# Altium footprint library CONN-SPE_AMP_3-1827253-6.PcbLib: 1 footprints
Each footprint in its own frame and in the unit in brackets; x right, y up, seen from the top. Pads: shape width x height; smd on the part's side, far side on the other; paste and mask are expansions set on the pad; w line width, h text height; cw(c..) or ccw(c..) is an arc to the next point about the centre after c.
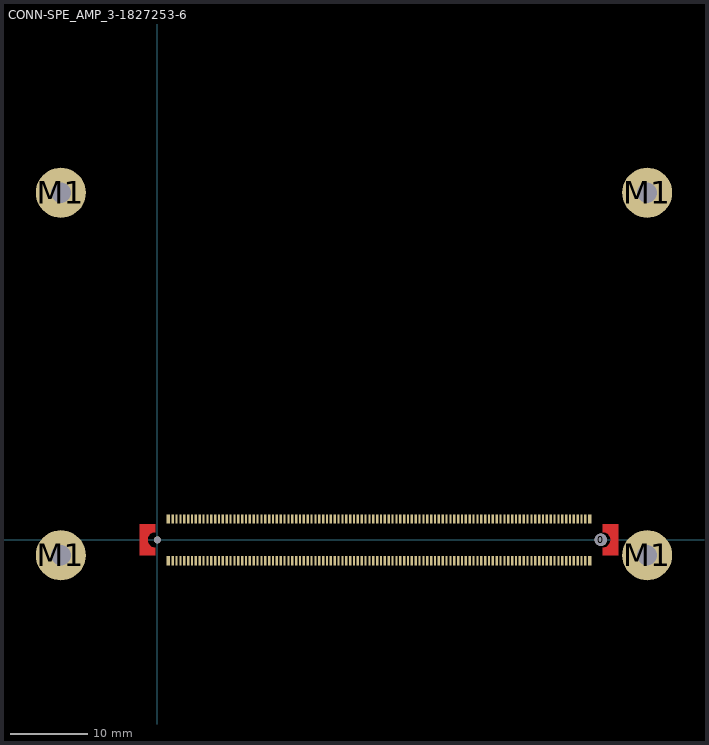
[diagram p0: the footprint, top view; thin cyan lines are the x and y axes]

## CONN-SPE_AMP_3-1827253-6 [mm]
pads (226):
  round 0.9 hole 0.9: 0(0,0)
  round 1.6 hole 1.6: 0(57.5,0)
  rect 0.45x1.2 smd: A1(1.425,-2.7) A110(56.075,-2.7) B1(1.425,2.7) B110(56.075,2.7)
  rect 0.3x1.2 smd: A2(2,-2.7) A3(2.5,-2.7) A4(3,-2.7) A5(3.5,-2.7) A6(4,-2.7) A7(4.5,-2.7) A8(5,-2.7) A9(5.5,-2.7) A10(6,-2.7) A11(6.5,-2.7) A12(7,-2.7) A13(7.5,-2.7) A14(8,-2.7) A15(8.5,-2.7) A16(9,-2.7) A17(9.5,-2.7) A18(10,-2.7) A19(10.5,-2.7) A20(11,-2.7) A21(11.5,-2.7) A22(12,-2.7) A23(12.5,-2.7) A24(13,-2.7) A25(13.5,-2.7) A26(14,-2.7) A27(14.5,-2.7) A28(15,-2.7) A29(15.5,-2.7) A30(16,-2.7) A31(16.5,-2.7) A32(17,-2.7) A33(17.5,-2.7) A34(18,-2.7) A35(18.5,-2.7) A36(19,-2.7) A37(19.5,-2.7) A38(20,-2.7) A39(20.5,-2.7) A40(21,-2.7) A41(21.5,-2.7) A42(22,-2.7) A43(22.5,-2.7) A44(23,-2.7) A45(23.5,-2.7) A46(24,-2.7) A47(24.5,-2.7) A48(25,-2.7) A49(25.5,-2.7) A50(26,-2.7) A51(26.5,-2.7) A52(27,-2.7) A53(27.5,-2.7) A54(28,-2.7) A55(28.5,-2.7) A56(29,-2.7) A57(29.5,-2.7) A58(30,-2.7) A59(30.5,-2.7) A60(31,-2.7) A61(31.5,-2.7) A62(32,-2.7) A63(32.5,-2.7) A64(33,-2.7) A65(33.5,-2.7) A66(34,-2.7) A67(34.5,-2.7) A68(35,-2.7) A69(35.5,-2.7) A70(36,-2.7) A71(36.5,-2.7) A72(37,-2.7) A73(37.5,-2.7) A74(38,-2.7) A75(38.5,-2.7) A76(39,-2.7) A77(39.5,-2.7) A78(40,-2.7) A79(40.5,-2.7) A80(41,-2.7) A81(41.5,-2.7) A82(42,-2.7) A83(42.5,-2.7) A84(43,-2.7) A85(43.5,-2.7) A86(44,-2.7) A87(44.5,-2.7) A88(45,-2.7) A89(45.5,-2.7) A90(46,-2.7) A91(46.5,-2.7) A92(47,-2.7) A93(47.5,-2.7) A94(48,-2.7) A95(48.5,-2.7) A96(49,-2.7) A97(49.5,-2.7) A98(50,-2.7) A99(50.5,-2.7) A100(51,-2.7) A101(51.5,-2.7) A102(52,-2.7) A103(52.5,-2.7) A104(53,-2.7) A105(53.5,-2.7) A106(54,-2.7) A107(54.5,-2.7) A108(55,-2.7) A109(55.5,-2.7) B2(2,2.7) B3(2.5,2.7) B4(3,2.7) B5(3.5,2.7) B6(4,2.7) B7(4.5,2.7) B8(5,2.7) B9(5.5,2.7) B10(6,2.7) B11(6.5,2.7) B12(7,2.7) B13(7.5,2.7) B14(8,2.7) B15(8.5,2.7) B16(9,2.7) B17(9.5,2.7) B18(10,2.7) B19(10.5,2.7) B20(11,2.7) B21(11.5,2.7) B22(12,2.7) B23(12.5,2.7) B24(13,2.7) B25(13.5,2.7) B26(14,2.7) B27(14.5,2.7) B28(15,2.7) B29(15.5,2.7) B30(16,2.7) B31(16.5,2.7) B32(17,2.7) B33(17.5,2.7) B34(18,2.7) B35(18.5,2.7) B36(19,2.7) B37(19.5,2.7) B38(20,2.7) B39(20.5,2.7) B40(21,2.7) B41(21.5,2.7) B42(22,2.7) B43(22.5,2.7) B44(23,2.7) B45(23.5,2.7) B46(24,2.7) B47(24.5,2.7) B48(25,2.7) B49(25.5,2.7) B50(26,2.7) B51(26.5,2.7) B52(27,2.7) B53(27.5,2.7) B54(28,2.7) B55(28.5,2.7) B56(29,2.7) B57(29.5,2.7) B58(30,2.7) B59(30.5,2.7) B60(31,2.7) B61(31.5,2.7) B62(32,2.7) B63(32.5,2.7) B64(33,2.7) B65(33.5,2.7) B66(34,2.7) B67(34.5,2.7) B68(35,2.7) B69(35.5,2.7) B70(36,2.7) B71(36.5,2.7) B72(37,2.7) B73(37.5,2.7) B74(38,2.7) B75(38.5,2.7) B76(39,2.7) B77(39.5,2.7) B78(40,2.7) B79(40.5,2.7) B80(41,2.7) B81(41.5,2.7) B82(42,2.7) B83(42.5,2.7) B84(43,2.7) B85(43.5,2.7) B86(44,2.7) B87(44.5,2.7) B88(45,2.7) B89(45.5,2.7) B90(46,2.7) B91(46.5,2.7) B92(47,2.7) B93(47.5,2.7) B94(48,2.7) B95(48.5,2.7) B96(49,2.7) B97(49.5,2.7) B98(50,2.7) B99(50.5,2.7) B100(51,2.7) B101(51.5,2.7) B102(52,2.7) B103(52.5,2.7) B104(53,2.7) B105(53.5,2.7) B106(54,2.7) B107(54.5,2.7) B108(55,2.7) B109(55.5,2.7)
  round 6.5 hole 2.6: M1(-12.5,-2) M1(-12.5,45) M1(63.5,-2) M1(63.5,45)
Top Layer:
  region: -2.25,2 -0.25,2 -0.25,1.009 -0.511,0.974 -0.754,0.873 -0.963,0.713 -1.123,0.504 -1.224,0.261 -1.259,0 -1.224,-0.261 -1.123,-0.504 -0.963,-0.713 -0.754,-0.873 -0.511,-0.974 -0.25,-1.009 -0.25,-1 -0.25,-2 -2.25,-2
  region: 59.75,-2 57.75,-2 57.75,-1.009 58.011,-0.974 58.254,-0.873 58.463,-0.713 58.623,-0.504 58.724,-0.261 58.759,0 58.724,0.261 58.623,0.504 58.463,0.713 58.254,0.873 58.011,0.974 57.75,1.009 57.75,1 57.75,2 59.75,2
3D body: height 4.45, standoff -0.6, extent -2.153,-3.072 59.647,3.128
3D body: height 7, standoff 0, extent 61.02,42.505 66,47.495
3D body: height 7, standoff 0, extent -14.98,42.505 -10,47.495
3D body: height 7, standoff 0, extent -14.98,-4.495 -10,0.495
3D body: height 7, standoff 0, extent 61.02,-4.495 66,0.495
3D body: height 15, standoff 7, extent -16.5,-6 67.5,49